# Altium schematic symbol library TP.SchLib: 1 symbol
Pins are listed as number, name and electrical type; pins without a type are passive.

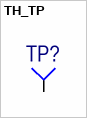
[diagram p0: symbol TH_TP]

## TH_TP
designator TP?
footprint TH_TP
pins: 1 TP